# Altium schematic symbol library CM1213A-04S7.SchLib: 1 symbol
Pins are listed as number, name and electrical type; pins without a type are passive.

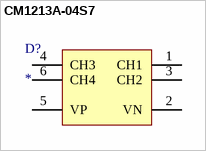
[diagram p0: symbol CM1213A-04S7]

## CM1213A-04S7
designator D?
Value: *
pins: 1 CH1 "ESD Channel", 2 VN (power) "Negative Voltage Supply Rail", 3 CH2 "ESD Channel", 4 CH3 "ESD Channel", 5 VP (power) "Positive Voltage Supply Rail", 6 CH4 "ESD Channel"